# EAGLE library part USB2244 (library usb-readers)
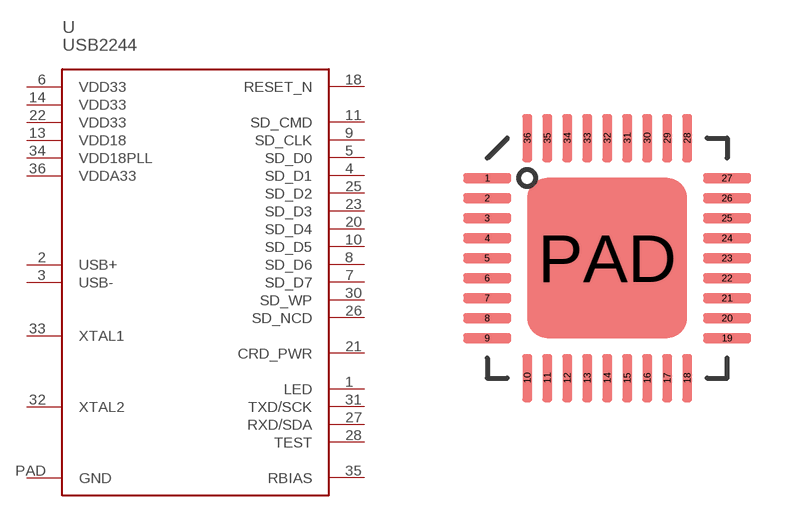
[diagram p0: symbol with the pads of QFN36; footprint QFN36]

Designator prefix -

## USB2244  [QFN36]
1  LED
2  USB+
3  USB-
4  SD_D1
5  SD_D0
6  VDD33
7  SD_D7
8  SD_D6
9  SD_CLK
10  SD_D5
11  SD_CMD
13  VDD18
14  VDD33
18  RESET_N
20  SD_D4
21  CRD_PWR
22  VDD33
23  SD_D3
25  SD_D2
26  SD_NCD
27  RXD/SDA
28  TEST
30  SD_WP
31  TXD/SCK
32  XTAL2
33  XTAL1
34  VDD18PLL
35  RBIAS
36  VDDA33
PAD  GND

## Footprint QFN36 (pad centres in mm)
smd 1.2 x 0.25: 1 -3,2; 2 -3,1.5; 3 -3,1; 4 -3,0.5; 5 -3,0; 6 -3,-0.5; 7 -3,-1; 8 -3,-1.5; 9 -3,-2; 19 3,-2; 20 3,-1.5; 21 3,-1; 22 3,-0.5; 23 3,0; 24 3,0.5; 25 3,1; 26 3,1.5; 27 3,2
smd 0.25 x 1.2: 10 -2,-3; 11 -1.5,-3; 12 -1,-3; 13 -0.5,-3; 14 0,-3; 15 0.5,-3; 16 1,-3; 17 1.5,-3; 18 2,-3; 28 2,3; 29 1.5,3; 30 1,3; 31 0.5,3; 32 0,3; 33 -0.5,3; 34 -1,3; 35 -1.5,3; 36 -2,3
smd 4 x 4: PAD 0,0